# Altium footprint library VQFN-16 .PcbLib: 1 footprints
Each footprint in its own frame and in the unit in brackets; x right, y up, seen from the top. Pads: shape width x height; smd on the part's side, far side on the other; paste and mask are expansions set on the pad; w line width, h text height; cw(c..) or ccw(c..) is an arc to the next point about the centre after c.
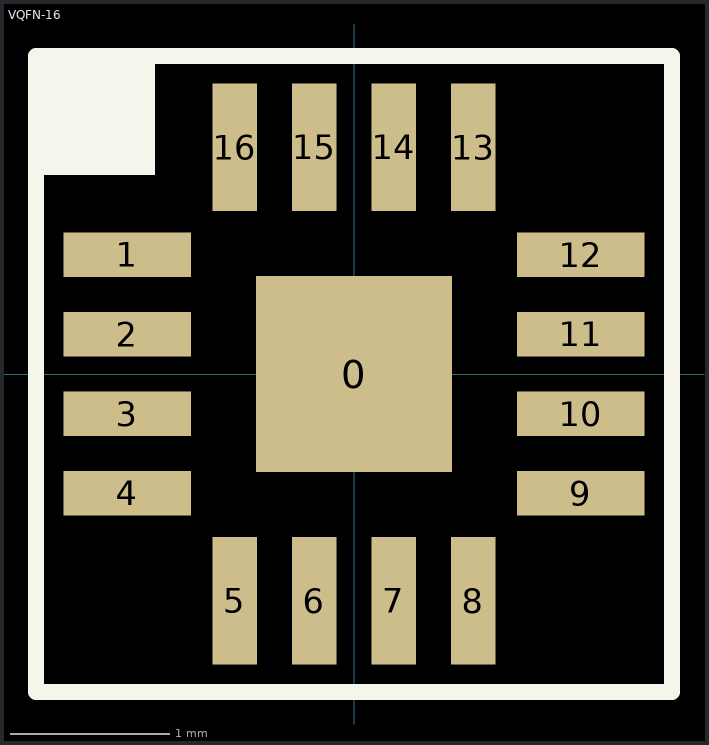
[diagram p0: the footprint, top view; thin cyan lines are the x and y axes]

## VQFN-16 [mm]
pads (17):
  rect 1.23x1.23 smd: 0(0,0)
  rect 0.8x0.28 smd: 1(-1.425,0.75) 2(-1.425,0.25) 3(-1.425,-0.25) 4(-1.425,-0.75) 9(1.425,-0.75) 10(1.425,-0.25) 11(1.425,0.25) 12(1.425,0.75)
  rect 0.28x0.8 smd: 5(-0.75,-1.425) 6(-0.25,-1.425) 7(0.25,-1.425) 8(0.75,-1.425) 13(0.75,1.425) 14(0.25,1.425) 15(-0.25,1.425) 16(-0.75,1.425)
Top Overlay:
  rectangle: -2,1.25 -1.25,2
  lines w0.1: -2,-2 -2,2 2,2 2,-2 -2,-2
3D body: height 0.9, standoff 0, extent -1.549,-1.521 1.493,1.521